# Altium schematic symbol library 555.SchLib: 1 symbol
Pins are listed as number, name and electrical type; pins without a type are passive.

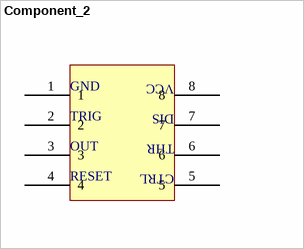
[diagram p0: symbol Component_2]

## Component_2
designator *
footprint 555
pins: 1, 2, 3, 4, 5, 6, 7, 8
text: VCC; GND; DIS; TRIG; THR; OUT; CTRL; RESET